# Altium integrated library Microchip PIC16 Part 2.IntLib: 1569 symbols (part 43 of 56)
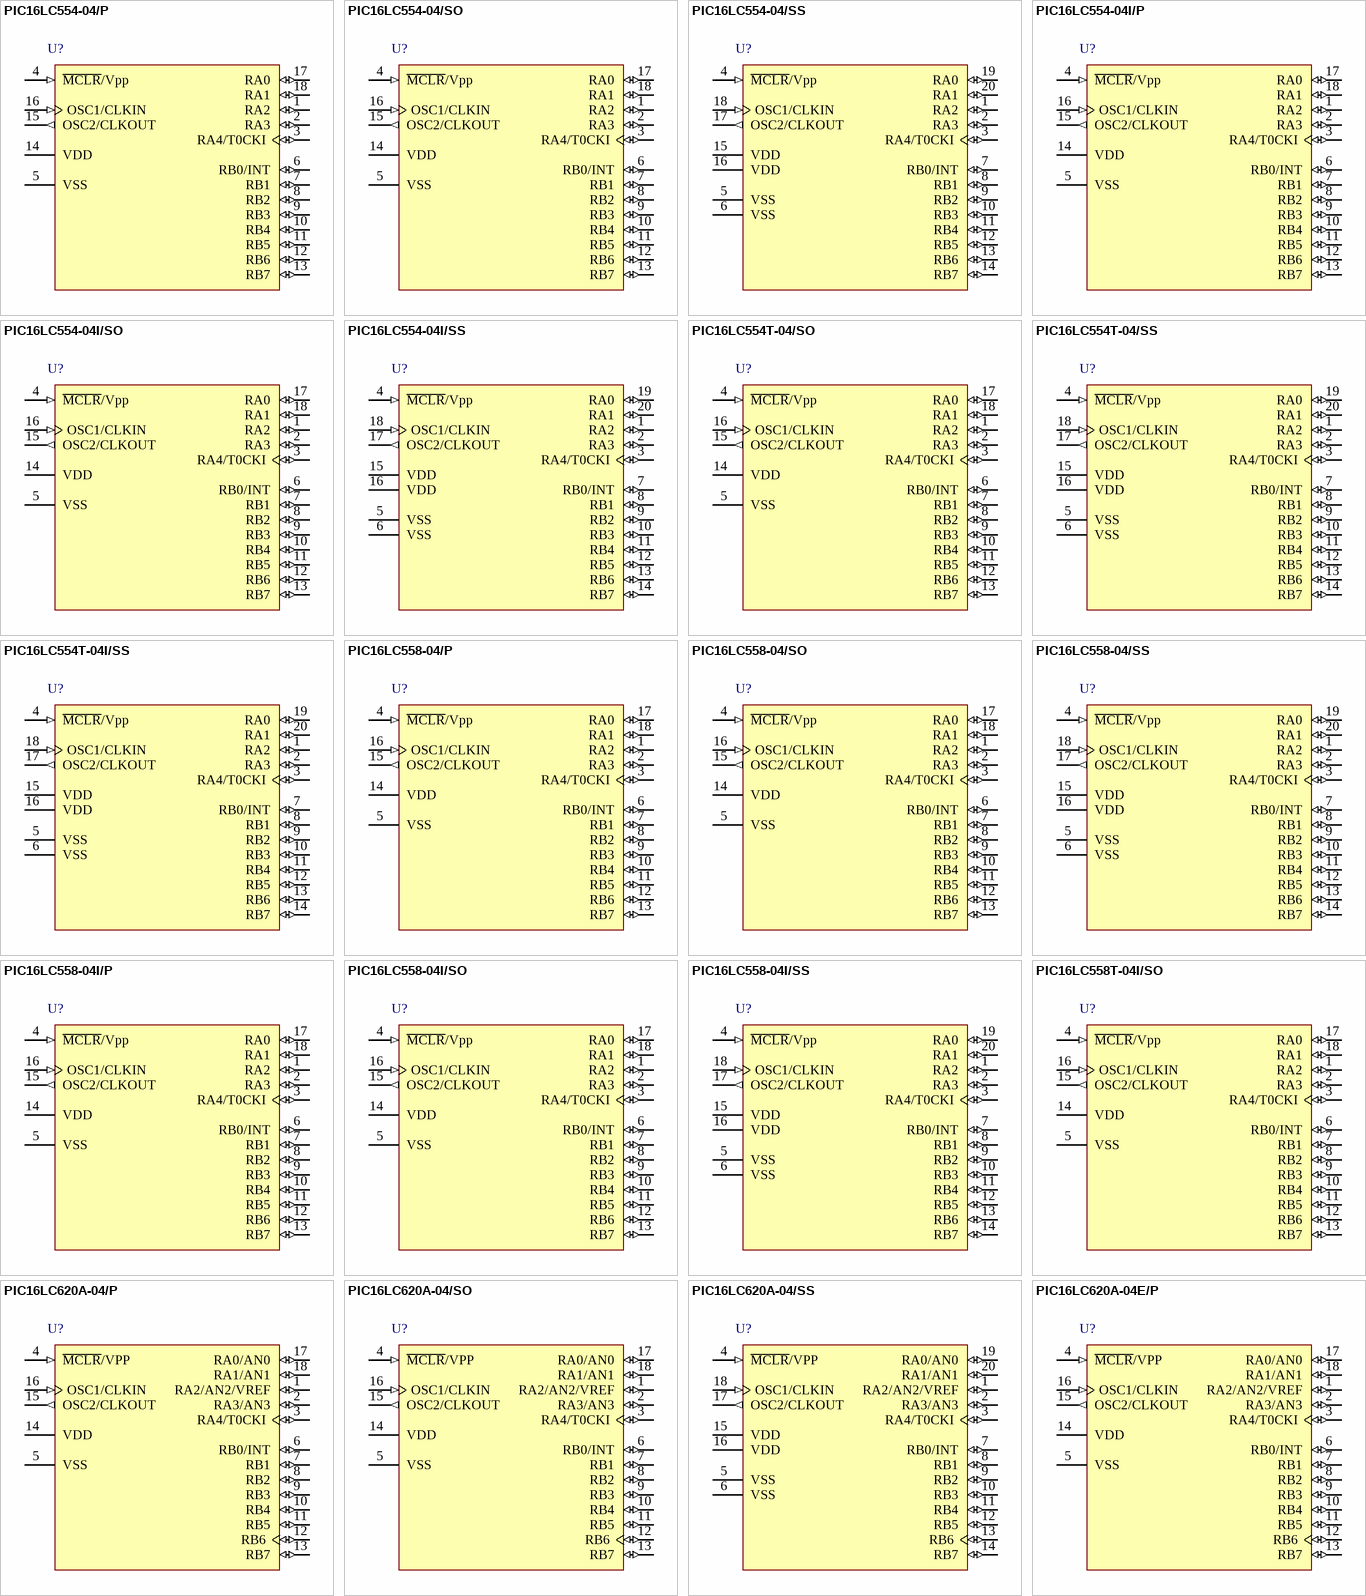
[diagram p167: symbols PIC16LC554-04/P to PIC16LC620A-04E/P]

## PIC16LC558T-04I/SO
designator U?
EPROM-Based 8-Bit CMOS Microcontroller, 128 Bytes RAM, 4 MHz, 13 I/O pins, 18-Pin SOIC, Extended VDD Range, Industrial Temperature, Tape and Reel; Manufacturer: Microchip; PartNumber: PIC16LC558T-04I/SO; DatasheetVersion: revD, Oct-2002; PackageVersion: revBB, Aug-2009; PackageReference: SOIC-SO18; PackageDescription: 18-Lead Plastic Small Outline (SO) - Wide 7.50mm Body [SOIC]; Supplier 1: Digi-Key; Supplier Part Number 1: PIC16LC558T-04ISO-ND; Supplier 2: Mouser; Supplier Part Number 2: 579-16LC558T-04I/SO; Code_JEDEC: MS-013; ComponentLink1Description: Manufacturer URL; ComponentLink1URL: http://www.microchip.com/; ComponentLink2Description: Datasheet; ComponentLink2URL: http://ww1.microchip.com/downloads/en/DeviceDoc/40143d.pdf; ComponentLink3Description: Package Specification; ComponentLink3URL: http://www.microchip.com/stellent/groups/techpub_sg/documents/packagingspec/en012702.pdf
footprint SOIC-SO18_N (SOIC, 18-Leads, Body 11.5x7.5mm, Pitch 1.27mm, IPC Medium Density)
footprint SOIC-SO18_L (SOIC, 18-Leads, Body 11.5x7.5mm, Pitch 1.27mm, IPC High Density)
footprint SOIC-SO18_M (SOIC, 18-Leads, Body 11.5x7.5mm, Pitch 1.27mm, IPC Low Density)
pins: 1 RA2 (io), 2 RA3 (io), 3 RA4/T0CKI (io), 4 ~{MCLR}/Vpp (in), 5 VSS (power), 6 RB0/INT (io), 7 RB1 (io), 8 RB2 (io), 9 RB3 (io), 10 RB4 (io), 11 RB5 (io), 12 RB6 (io), 13 RB7 (io), 14 VDD (power), 15 OSC2/CLKOUT (out), 16 OSC1/CLKIN (in), 17 RA0 (io), 18 RA1 (io)

## PIC16LC620A-04/P
designator U?
EPROM-Based 8-Bit CMOS Microcontroller, 96 Bytes RAM, 4 MHz, 13 I/O pins, 18-Pin PDIP, 2.5 to 5.5V Supply Range, Commercial Temperature; Manufacturer: Microchip; PartNumber: PIC16LC620A-04/P; DatasheetVersion: revJ, May-2003; PackageVersion: revBB, Aug-2009; PackageReference: PDIP300-P18; PackageDescription: 18-Lead Plastic Dual In-Line (P) - 300 mil Body [PDIP]; Supplier 1: Digi-Key; Supplier Part Number 1: PIC16LC620A-04/P-ND; Supplier 2: Mouser; Supplier Part Number 2: 579-PIC16LC620A-04/P; Code_JEDEC: MS-001; ComponentLink1Description: Manufacturer URL; ComponentLink1URL: http://www.microchip.com/; ComponentLink2Description: Datasheet; ComponentLink2URL: http://ww1.microchip.com/downloads/en/DeviceDoc/30235j.pdf; ComponentLink3Description: Package Specification; ComponentLink3URL: http://www.microchip.com/stellent/groups/techpub_sg/documents/packagingspec/en012702.pdf
footprint PDIP300-P18 (DIP, 18-Leads, Row Spacing 7.62mm, Pitch 2.54mm, Body 22.9x6.6mm)
pins: 1 RA2/AN2/VREF (io), 2 RA3/AN3 (io), 3 RA4/T0CKI (io), 4 ~{MCLR}/VPP (in), 5 VSS (power), 6 RB0/INT (io), 7 RB1 (io), 8 RB2 (io), 9 RB3 (io), 10 RB4 (io), 11 RB5 (io), 12 RB6 (io), 13 RB7 (io), 14 VDD (power), 15 OSC2/CLKOUT (out), 16 OSC1/CLKIN (in), 17 RA0/AN0 (io), 18 RA1/AN1 (io)

## PIC16LC620A-04/SO
designator U?
EPROM-Based 8-Bit CMOS Microcontroller, 96 Bytes RAM, 4 MHz, 13 I/O pins, 18-Pin SOIC, 2.5 to 5.5V Supply Range, Commercial Temperature; Manufacturer: Microchip; PartNumber: PIC16LC620A-04/SO; DatasheetVersion: revJ, May-2003; PackageVersion: revBB, Aug-2009; PackageReference: SOIC-SO18; PackageDescription: 18-Lead Plastic Small Outline (SO) - Wide 7.50mm Body [SOIC]; Supplier 1: Digi-Key; Supplier Part Number 1: PIC16LC620A-04/SO-ND; Supplier 2: Mouser; Supplier Part Number 2: 579-16LC620A-04/SO; Code_JEDEC: MS-013; ComponentLink1Description: Manufacturer URL; ComponentLink1URL: http://www.microchip.com/; ComponentLink2Description: Datasheet; ComponentLink2URL: http://ww1.microchip.com/downloads/en/DeviceDoc/30235j.pdf; ComponentLink3Description: Package Specification; ComponentLink3URL: http://www.microchip.com/stellent/groups/techpub_sg/documents/packagingspec/en012702.pdf
footprint SOIC-SO18_N (SOIC, 18-Leads, Body 11.5x7.5mm, Pitch 1.27mm, IPC Medium Density)
footprint SOIC-SO18_L (SOIC, 18-Leads, Body 11.5x7.5mm, Pitch 1.27mm, IPC High Density)
footprint SOIC-SO18_M (SOIC, 18-Leads, Body 11.5x7.5mm, Pitch 1.27mm, IPC Low Density)
pins: 1 RA2/AN2/VREF (io), 2 RA3/AN3 (io), 3 RA4/T0CKI (io), 4 ~{MCLR}/VPP (in), 5 VSS (power), 6 RB0/INT (io), 7 RB1 (io), 8 RB2 (io), 9 RB3 (io), 10 RB4 (io), 11 RB5 (io), 12 RB6 (io), 13 RB7 (io), 14 VDD (power), 15 OSC2/CLKOUT (out), 16 OSC1/CLKIN (in), 17 RA0/AN0 (io), 18 RA1/AN1 (io)

## PIC16LC620A-04/SS
designator U?
EPROM-Based 8-Bit CMOS Microcontroller, 96 Bytes RAM, 4 MHz, 13 I/O pins, 20-Pin SSOP, 2.5 to 5.5V Supply Range, Commercial Temperature; Manufacturer: Microchip; PartNumber: PIC16LC620A-04/SS; DatasheetVersion: revJ, May-2003; PackageVersion: revBB, Aug-2009; PackageReference: SSOP-SS20; PackageDescription: 20-Lead Plastic Shrink Small Outline (SS) - 5.3mm Body [SSOP]; Supplier 1: Digi-Key; Supplier Part Number 1: PIC16LC620A-04/SS-ND; Supplier 2: Mouser; Supplier Part Number 2: 579-16LC620A-04/SS; Code_JEDEC: MO-150; ComponentLink1Description: Manufacturer URL; ComponentLink1URL: http://www.microchip.com/; ComponentLink2Description: Datasheet; ComponentLink2URL: http://ww1.microchip.com/downloads/en/DeviceDoc/30235j.pdf; ComponentLink3Description: Package Specification; ComponentLink3URL: http://www.microchip.com/stellent/groups/techpub_sg/documents/packagingspec/en012702.pdf
footprint SSOP-SS20_N (SOP, 20-Leads, Body 7.2x5.2mm, Pitch 0.65mm, IPC Medium Density)
footprint SSOP-SS20_L (SOP, 20-Leads, Body 7.2x5.2mm, Pitch 0.65mm, IPC High Density)
footprint SSOP-SS20_M (SOP, 20-Leads, Body 7.2x5.2mm, Pitch 0.65mm, IPC Low Density)
pins: 1 RA2/AN2/VREF (io), 2 RA3/AN3 (io), 3 RA4/T0CKI (io), 4 ~{MCLR}/VPP (in), 5 VSS (power), 6 VSS (power), 7 RB0/INT (io), 8 RB1 (io), 9 RB2 (io), 10 RB3 (io), 11 RB4 (io), 12 RB5 (io), 13 RB6 (io), 14 RB7 (io), 15 VDD (power), 16 VDD (power), 17 OSC2/CLKOUT (out), 18 OSC1/CLKIN (in), 19 RA0/AN0 (io), 20 RA1/AN1 (io)

## PIC16LC620A-04E/P
designator U?
EPROM-Based 8-Bit CMOS Microcontroller, 96 Bytes RAM, 4 MHz, 13 I/O pins, 18-Pin PDIP, 2.7 to 5.5V Supply Range, Extended Temperature; Manufacturer: Microchip; PartNumber: PIC16LC620A-04E/P; DatasheetVersion: revJ, May-2003; PackageVersion: revBB, Aug-2009; PackageReference: PDIP300-P18; PackageDescription: 18-Lead Plastic Dual In-Line (P) - 300 mil Body [PDIP]; Supplier 1: Digi-Key; Supplier Part Number 1: PIC16LC620A-04E/P-ND; Supplier 2: Mouser; Supplier Part Number 2: 579-16LC620A-04E/P; Code_JEDEC: MS-001; ComponentLink1Description: Manufacturer URL; ComponentLink1URL: http://www.microchip.com/; ComponentLink2Description: Datasheet; ComponentLink2URL: http://ww1.microchip.com/downloads/en/DeviceDoc/30235j.pdf; ComponentLink3Description: Package Specification; ComponentLink3URL: http://www.microchip.com/stellent/groups/techpub_sg/documents/packagingspec/en012702.pdf
footprint PDIP300-P18 (DIP, 18-Leads, Row Spacing 7.62mm, Pitch 2.54mm, Body 22.9x6.6mm)
pins: 1 RA2/AN2/VREF (io), 2 RA3/AN3 (io), 3 RA4/T0CKI (io), 4 ~{MCLR}/VPP (in), 5 VSS (power), 6 RB0/INT (io), 7 RB1 (io), 8 RB2 (io), 9 RB3 (io), 10 RB4 (io), 11 RB5 (io), 12 RB6 (io), 13 RB7 (io), 14 VDD (power), 15 OSC2/CLKOUT (out), 16 OSC1/CLKIN (in), 17 RA0/AN0 (io), 18 RA1/AN1 (io)

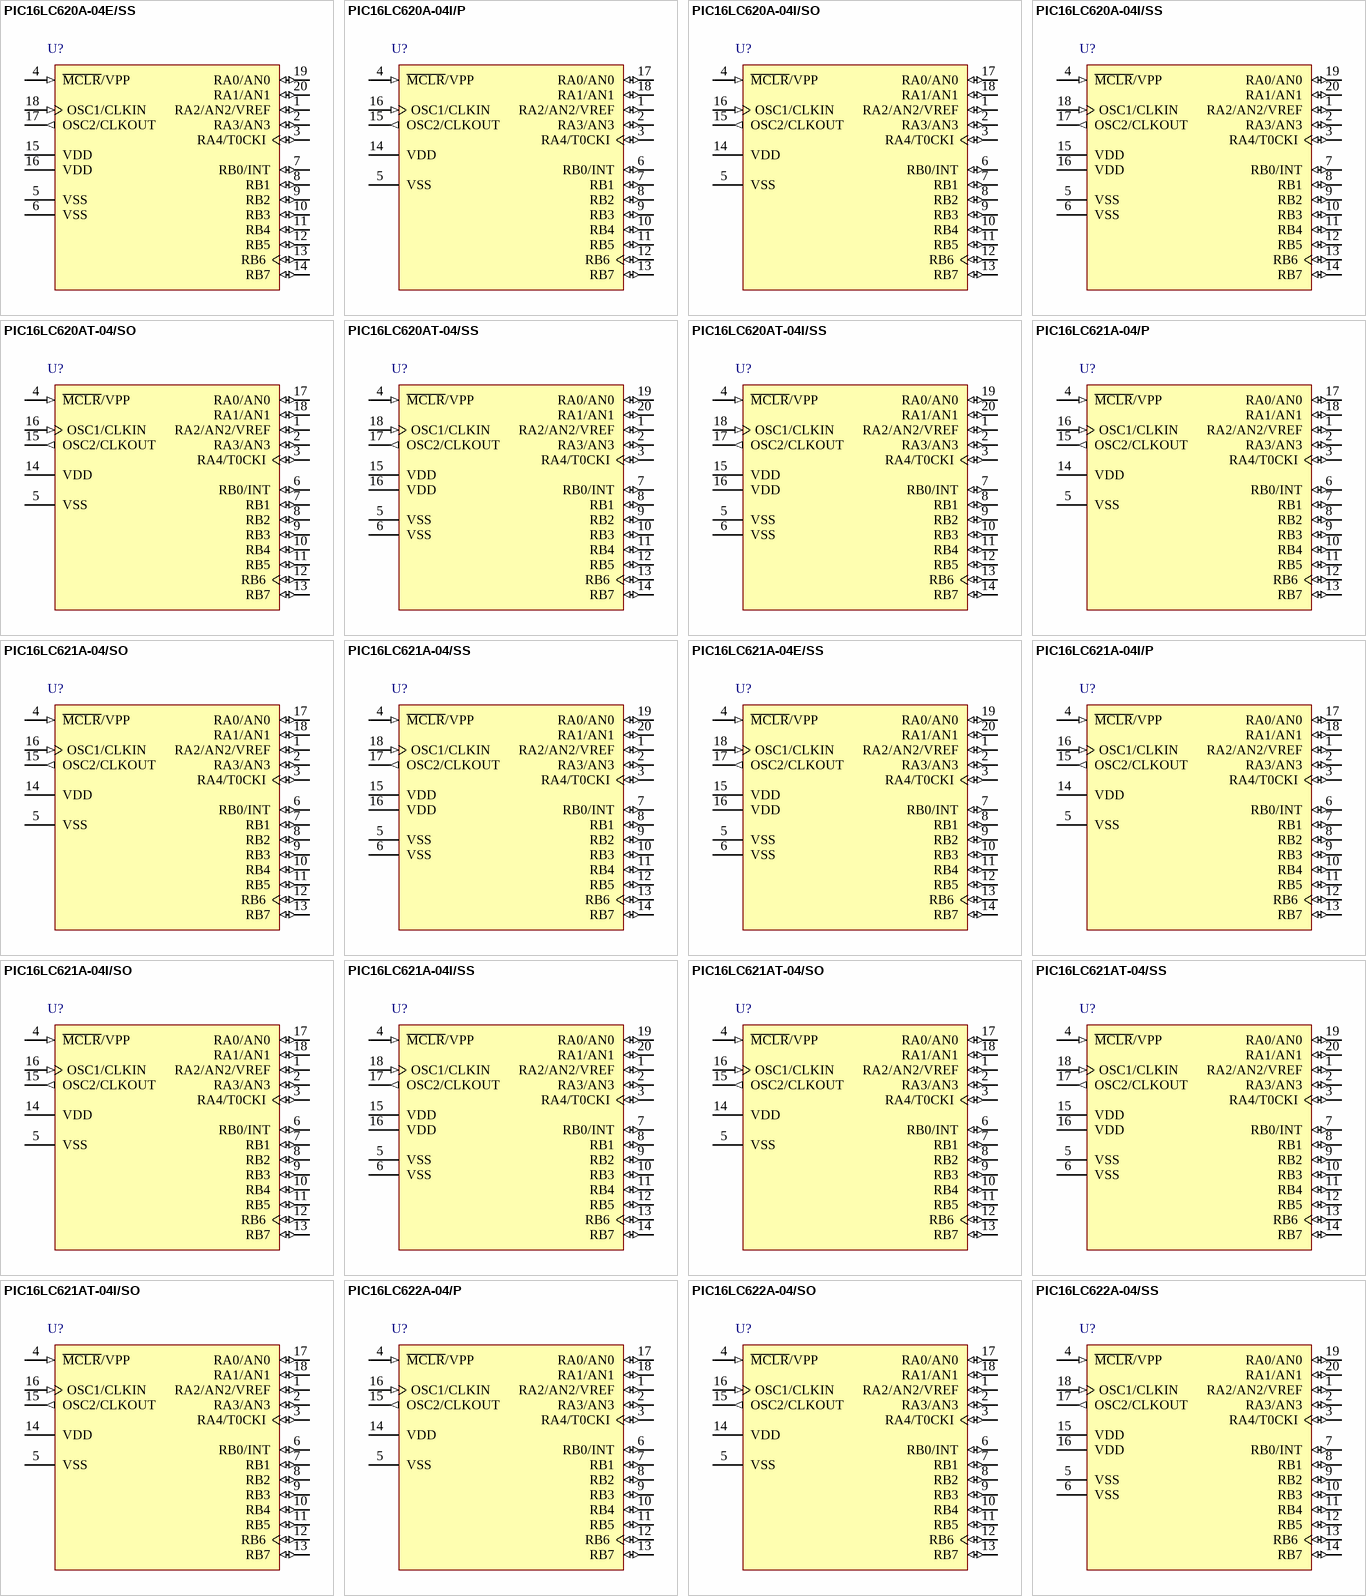
[diagram p92: symbols PIC16LC620A-04E/SS to PIC16LC622A-04/SS]

## PIC16LC620A-04E/SS
designator U?
EPROM-Based 8-Bit CMOS Microcontroller, 96 Bytes RAM, 4 MHz, 13 I/O pins, 20-Pin SSOP, 2.7 to 5.5V Supply Range, Extended Temperature; Manufacturer: Microchip; PartNumber: PIC16LC620A-04E/SS; DatasheetVersion: revJ, May-2003; PackageVersion: revBB, Aug-2009; PackageReference: SSOP-SS20; PackageDescription: 20-Lead Plastic Shrink Small Outline (SS) - 5.3mm Body [SSOP]; Supplier 1: Digi-Key; Supplier Part Number 1: PIC16LC620A-04ESS-ND; Supplier 2: Mouser; Supplier Part Number 2: 579-16LC620A-04E/SS; Code_JEDEC: MO-150; ComponentLink1Description: Manufacturer URL; ComponentLink1URL: http://www.microchip.com/; ComponentLink2Description: Datasheet; ComponentLink2URL: http://ww1.microchip.com/downloads/en/DeviceDoc/30235j.pdf; ComponentLink3Description: Package Specification; ComponentLink3URL: http://www.microchip.com/stellent/groups/techpub_sg/documents/packagingspec/en012702.pdf
footprint SSOP-SS20_N (SOP, 20-Leads, Body 7.2x5.2mm, Pitch 0.65mm, IPC Medium Density)
footprint SSOP-SS20_L (SOP, 20-Leads, Body 7.2x5.2mm, Pitch 0.65mm, IPC High Density)
footprint SSOP-SS20_M (SOP, 20-Leads, Body 7.2x5.2mm, Pitch 0.65mm, IPC Low Density)
pins: 1 RA2/AN2/VREF (io), 2 RA3/AN3 (io), 3 RA4/T0CKI (io), 4 ~{MCLR}/VPP (in), 5 VSS (power), 6 VSS (power), 7 RB0/INT (io), 8 RB1 (io), 9 RB2 (io), 10 RB3 (io), 11 RB4 (io), 12 RB5 (io), 13 RB6 (io), 14 RB7 (io), 15 VDD (power), 16 VDD (power), 17 OSC2/CLKOUT (out), 18 OSC1/CLKIN (in), 19 RA0/AN0 (io), 20 RA1/AN1 (io)

## PIC16LC620A-04I/P
designator U?
EPROM-Based 8-Bit CMOS Microcontroller, 96 Bytes RAM, 4 MHz, 13 I/O pins, 18-Pin PDIP, 2.7 to 5.5V Supply Range, Industrial Temperature; Manufacturer: Microchip; PartNumber: PIC16LC620A-04I/P; DatasheetVersion: revJ, May-2003; PackageVersion: revBB, Aug-2009; PackageReference: PDIP300-P18; PackageDescription: 18-Lead Plastic Dual In-Line (P) - 300 mil Body [PDIP]; Supplier 1: Digi-Key; Supplier Part Number 1: PIC16LC620A-04I/P-ND; Supplier 2: Mouser; Supplier Part Number 2: 579-16LC620A-04I/P; Code_JEDEC: MS-001; ComponentLink1Description: Manufacturer URL; ComponentLink1URL: http://www.microchip.com/; ComponentLink2Description: Datasheet; ComponentLink2URL: http://ww1.microchip.com/downloads/en/DeviceDoc/30235j.pdf; ComponentLink3Description: Package Specification; ComponentLink3URL: http://www.microchip.com/stellent/groups/techpub_sg/documents/packagingspec/en012702.pdf
footprint PDIP300-P18 (DIP, 18-Leads, Row Spacing 7.62mm, Pitch 2.54mm, Body 22.9x6.6mm)
pins: 1 RA2/AN2/VREF (io), 2 RA3/AN3 (io), 3 RA4/T0CKI (io), 4 ~{MCLR}/VPP (in), 5 VSS (power), 6 RB0/INT (io), 7 RB1 (io), 8 RB2 (io), 9 RB3 (io), 10 RB4 (io), 11 RB5 (io), 12 RB6 (io), 13 RB7 (io), 14 VDD (power), 15 OSC2/CLKOUT (out), 16 OSC1/CLKIN (in), 17 RA0/AN0 (io), 18 RA1/AN1 (io)

## PIC16LC620A-04I/SO
designator U?
EPROM-Based 8-Bit CMOS Microcontroller, 96 Bytes RAM, 4 MHz, 13 I/O pins, 18-Pin SOIC, 2.7 to 5.5V Supply Range, Industrial Temperature; Manufacturer: Microchip; PartNumber: PIC16LC620A-04I/SO; DatasheetVersion: revJ, May-2003; PackageVersion: revBB, Aug-2009; PackageReference: SOIC-SO18; PackageDescription: 18-Lead Plastic Small Outline (SO) - Wide 7.50mm Body [SOIC]; Supplier 1: Digi-Key; Supplier Part Number 1: PIC16LC620A-04ISO-ND; Supplier 2: Mouser; Supplier Part Number 2: 579-16LC620A-04I/SO; Code_JEDEC: MS-013; ComponentLink1Description: Manufacturer URL; ComponentLink1URL: http://www.microchip.com/; ComponentLink2Description: Datasheet; ComponentLink2URL: http://ww1.microchip.com/downloads/en/DeviceDoc/30235j.pdf; ComponentLink3Description: Package Specification; ComponentLink3URL: http://www.microchip.com/stellent/groups/techpub_sg/documents/packagingspec/en012702.pdf
footprint SOIC-SO18_N (SOIC, 18-Leads, Body 11.5x7.5mm, Pitch 1.27mm, IPC Medium Density)
footprint SOIC-SO18_L (SOIC, 18-Leads, Body 11.5x7.5mm, Pitch 1.27mm, IPC High Density)
footprint SOIC-SO18_M (SOIC, 18-Leads, Body 11.5x7.5mm, Pitch 1.27mm, IPC Low Density)
pins: 1 RA2/AN2/VREF (io), 2 RA3/AN3 (io), 3 RA4/T0CKI (io), 4 ~{MCLR}/VPP (in), 5 VSS (power), 6 RB0/INT (io), 7 RB1 (io), 8 RB2 (io), 9 RB3 (io), 10 RB4 (io), 11 RB5 (io), 12 RB6 (io), 13 RB7 (io), 14 VDD (power), 15 OSC2/CLKOUT (out), 16 OSC1/CLKIN (in), 17 RA0/AN0 (io), 18 RA1/AN1 (io)

## PIC16LC620A-04I/SS
designator U?
EPROM-Based 8-Bit CMOS Microcontroller, 96 Bytes RAM, 4 MHz, 13 I/O pins, 20-Pin SSOP, 2.7 to 5.5V Supply Range, Industrial Temperature; Manufacturer: Microchip; PartNumber: PIC16LC620A-04I/SS; DatasheetVersion: revJ, May-2003; PackageVersion: revBB, Aug-2009; PackageReference: SSOP-SS20; PackageDescription: 20-Lead Plastic Shrink Small Outline (SS) - 5.3mm Body [SSOP]; Supplier 1: Digi-Key; Supplier Part Number 1: PIC16LC620A-04ISS-ND; Supplier 2: Mouser; Supplier Part Number 2: 579-16LC620A-04I/SS; Code_JEDEC: MO-150; ComponentLink1Description: Manufacturer URL; ComponentLink1URL: http://www.microchip.com/; ComponentLink2Description: Datasheet; ComponentLink2URL: http://ww1.microchip.com/downloads/en/DeviceDoc/30235j.pdf; ComponentLink3Description: Package Specification; ComponentLink3URL: http://www.microchip.com/stellent/groups/techpub_sg/documents/packagingspec/en012702.pdf
footprint SSOP-SS20_N (SOP, 20-Leads, Body 7.2x5.2mm, Pitch 0.65mm, IPC Medium Density)
footprint SSOP-SS20_L (SOP, 20-Leads, Body 7.2x5.2mm, Pitch 0.65mm, IPC High Density)
footprint SSOP-SS20_M (SOP, 20-Leads, Body 7.2x5.2mm, Pitch 0.65mm, IPC Low Density)
pins: 1 RA2/AN2/VREF (io), 2 RA3/AN3 (io), 3 RA4/T0CKI (io), 4 ~{MCLR}/VPP (in), 5 VSS (power), 6 VSS (power), 7 RB0/INT (io), 8 RB1 (io), 9 RB2 (io), 10 RB3 (io), 11 RB4 (io), 12 RB5 (io), 13 RB6 (io), 14 RB7 (io), 15 VDD (power), 16 VDD (power), 17 OSC2/CLKOUT (out), 18 OSC1/CLKIN (in), 19 RA0/AN0 (io), 20 RA1/AN1 (io)

## PIC16LC620AT-04/SO
designator U?
EPROM-Based 8-Bit CMOS Microcontroller, 96 Bytes RAM, 4 MHz, 13 I/O pins, 18-Pin SOIC, 2.5 to 5.5V Supply Range, Commercial Temperature, Tape and Reel; Manufacturer: Microchip; PartNumber: PIC16LC620AT-04/SO; DatasheetVersion: revJ, May-2003; PackageVersion: revBB, Aug-2009; PackageReference: SOIC-SO18; PackageDescription: 18-Lead Plastic Small Outline (SO) - Wide 7.50mm Body [SOIC]; Supplier 1: Digi-Key; Supplier Part Number 1: PIC16LC620AT-04SO-ND; Supplier 2: Mouser; Supplier Part Number 2: 579-16LC620AT-04/SO; Code_JEDEC: MS-013; ComponentLink1Description: Manufacturer URL; ComponentLink1URL: http://www.microchip.com/; ComponentLink2Description: Datasheet; ComponentLink2URL: http://ww1.microchip.com/downloads/en/DeviceDoc/30235j.pdf; ComponentLink3Description: Package Specification; ComponentLink3URL: http://www.microchip.com/stellent/groups/techpub_sg/documents/packagingspec/en012702.pdf
footprint SOIC-SO18_N (SOIC, 18-Leads, Body 11.5x7.5mm, Pitch 1.27mm, IPC Medium Density)
footprint SOIC-SO18_L (SOIC, 18-Leads, Body 11.5x7.5mm, Pitch 1.27mm, IPC High Density)
footprint SOIC-SO18_M (SOIC, 18-Leads, Body 11.5x7.5mm, Pitch 1.27mm, IPC Low Density)
pins: 1 RA2/AN2/VREF (io), 2 RA3/AN3 (io), 3 RA4/T0CKI (io), 4 ~{MCLR}/VPP (in), 5 VSS (power), 6 RB0/INT (io), 7 RB1 (io), 8 RB2 (io), 9 RB3 (io), 10 RB4 (io), 11 RB5 (io), 12 RB6 (io), 13 RB7 (io), 14 VDD (power), 15 OSC2/CLKOUT (out), 16 OSC1/CLKIN (in), 17 RA0/AN0 (io), 18 RA1/AN1 (io)

## PIC16LC620AT-04/SS
designator U?
EPROM-Based 8-Bit CMOS Microcontroller, 96 Bytes RAM, 4 MHz, 13 I/O pins, 20-Pin SSOP, 2.5 to 5.5V Supply Range, Commercial Temperature, Tape and Reel; Manufacturer: Microchip; PartNumber: PIC16LC620AT-04/SS; DatasheetVersion: revJ, May-2003; PackageVersion: revBB, Aug-2009; PackageReference: SSOP-SS20; PackageDescription: 20-Lead Plastic Shrink Small Outline (SS) - 5.3mm Body [SSOP]; Supplier 1: Digi-Key; Supplier Part Number 1: PIC16LC620AT-04SS-ND; Supplier 2: Mouser; Supplier Part Number 2: 579-16LC620AT-04/SS; Code_JEDEC: MO-150; ComponentLink1Description: Manufacturer URL; ComponentLink1URL: http://www.microchip.com/; ComponentLink2Description: Datasheet; ComponentLink2URL: http://ww1.microchip.com/downloads/en/DeviceDoc/30235j.pdf; ComponentLink3Description: Package Specification; ComponentLink3URL: http://www.microchip.com/stellent/groups/techpub_sg/documents/packagingspec/en012702.pdf
footprint SSOP-SS20_N (SOP, 20-Leads, Body 7.2x5.2mm, Pitch 0.65mm, IPC Medium Density)
footprint SSOP-SS20_L (SOP, 20-Leads, Body 7.2x5.2mm, Pitch 0.65mm, IPC High Density)
footprint SSOP-SS20_M (SOP, 20-Leads, Body 7.2x5.2mm, Pitch 0.65mm, IPC Low Density)
pins: 1 RA2/AN2/VREF (io), 2 RA3/AN3 (io), 3 RA4/T0CKI (io), 4 ~{MCLR}/VPP (in), 5 VSS (power), 6 VSS (power), 7 RB0/INT (io), 8 RB1 (io), 9 RB2 (io), 10 RB3 (io), 11 RB4 (io), 12 RB5 (io), 13 RB6 (io), 14 RB7 (io), 15 VDD (power), 16 VDD (power), 17 OSC2/CLKOUT (out), 18 OSC1/CLKIN (in), 19 RA0/AN0 (io), 20 RA1/AN1 (io)

## PIC16LC620AT-04I/SS
designator U?
EPROM-Based 8-Bit CMOS Microcontroller, 96 Bytes RAM, 4 MHz, 13 I/O pins, 20-Pin SSOP, 2.7 to 5.5V Supply Range, Industrial Temperature, Tape and Reel; Manufacturer: Microchip; PartNumber: PIC16LC620AT-04I/SS; DatasheetVersion: revJ, May-2003; PackageVersion: revBB, Aug-2009; PackageReference: SSOP-SS20; PackageDescription: 20-Lead Plastic Shrink Small Outline (SS) - 5.3mm Body [SSOP]; Supplier 1: Digi-Key; Supplier Part Number 1: PIC16LC620AT04ISS-ND; Supplier 2: Mouser; Supplier Part Number 2: 579-16LC620AT-04I/SS; Code_JEDEC: MO-150; ComponentLink1Description: Manufacturer URL; ComponentLink1URL: http://www.microchip.com/; ComponentLink2Description: Datasheet; ComponentLink2URL: http://ww1.microchip.com/downloads/en/DeviceDoc/30235j.pdf; ComponentLink3Description: Package Specification; ComponentLink3URL: http://www.microchip.com/stellent/groups/techpub_sg/documents/packagingspec/en012702.pdf
footprint SSOP-SS20_N (SOP, 20-Leads, Body 7.2x5.2mm, Pitch 0.65mm, IPC Medium Density)
footprint SSOP-SS20_L (SOP, 20-Leads, Body 7.2x5.2mm, Pitch 0.65mm, IPC High Density)
footprint SSOP-SS20_M (SOP, 20-Leads, Body 7.2x5.2mm, Pitch 0.65mm, IPC Low Density)
pins: 1 RA2/AN2/VREF (io), 2 RA3/AN3 (io), 3 RA4/T0CKI (io), 4 ~{MCLR}/VPP (in), 5 VSS (power), 6 VSS (power), 7 RB0/INT (io), 8 RB1 (io), 9 RB2 (io), 10 RB3 (io), 11 RB4 (io), 12 RB5 (io), 13 RB6 (io), 14 RB7 (io), 15 VDD (power), 16 VDD (power), 17 OSC2/CLKOUT (out), 18 OSC1/CLKIN (in), 19 RA0/AN0 (io), 20 RA1/AN1 (io)

## PIC16LC621A-04/P
designator U?
EPROM-Based 8-Bit CMOS Microcontroller, 96 Bytes RAM, 4 MHz, 13 I/O pins, 18-Pin PDIP, 2.5 to 5.5V Supply Range, Commercial Temperature; Manufacturer: Microchip; PartNumber: PIC16LC621A-04/P; DatasheetVersion: revJ, May-2003; PackageVersion: revBB, Aug-2009; PackageReference: PDIP300-P18; PackageDescription: 18-Lead Plastic Dual In-Line (P) - 300 mil Body [PDIP]; Supplier 1: Digi-Key; Supplier Part Number 1: PIC16LC621A-04/P-ND; Supplier 2: Newark; Supplier Part Number 2: 23C5318; Supplier 3: Mouser; Supplier Part Number 3: 579-PIC16LC621A-04/P; Code_JEDEC: MS-001; ComponentLink1Description: Manufacturer URL; ComponentLink1URL: http://www.microchip.com/; ComponentLink2Description: Datasheet; ComponentLink2URL: http://ww1.microchip.com/downloads/en/DeviceDoc/30235j.pdf; ComponentLink3Description: Package Specification; ComponentLink3URL: http://www.microchip.com/stellent/groups/techpub_sg/documents/packagingspec/en012702.pdf
footprint PDIP300-P18 (DIP, 18-Leads, Row Spacing 7.62mm, Pitch 2.54mm, Body 22.9x6.6mm)
pins: 1 RA2/AN2/VREF (io), 2 RA3/AN3 (io), 3 RA4/T0CKI (io), 4 ~{MCLR}/VPP (in), 5 VSS (power), 6 RB0/INT (io), 7 RB1 (io), 8 RB2 (io), 9 RB3 (io), 10 RB4 (io), 11 RB5 (io), 12 RB6 (io), 13 RB7 (io), 14 VDD (power), 15 OSC2/CLKOUT (out), 16 OSC1/CLKIN (in), 17 RA0/AN0 (io), 18 RA1/AN1 (io)

## PIC16LC621A-04/SO
designator U?
EPROM-Based 8-Bit CMOS Microcontroller, 96 Bytes RAM, 4 MHz, 13 I/O pins, 18-Pin SOIC, 2.5 to 5.5V Supply Range, Commercial Temperature; Manufacturer: Microchip; PartNumber: PIC16LC621A-04/SO; DatasheetVersion: revJ, May-2003; PackageVersion: revBB, Aug-2009; PackageReference: SOIC-SO18; PackageDescription: 18-Lead Plastic Small Outline (SO) - Wide 7.50mm Body [SOIC]; Supplier 1: Digi-Key; Supplier Part Number 1: PIC16LC621A-04/SO-ND; Supplier 2: Mouser; Supplier Part Number 2: 579-16LC621A-04/SO; Code_JEDEC: MS-013; ComponentLink1Description: Manufacturer URL; ComponentLink1URL: http://www.microchip.com/; ComponentLink2Description: Datasheet; ComponentLink2URL: http://ww1.microchip.com/downloads/en/DeviceDoc/30235j.pdf; ComponentLink3Description: Package Specification; ComponentLink3URL: http://www.microchip.com/stellent/groups/techpub_sg/documents/packagingspec/en012702.pdf
footprint SOIC-SO18_N (SOIC, 18-Leads, Body 11.5x7.5mm, Pitch 1.27mm, IPC Medium Density)
footprint SOIC-SO18_L (SOIC, 18-Leads, Body 11.5x7.5mm, Pitch 1.27mm, IPC High Density)
footprint SOIC-SO18_M (SOIC, 18-Leads, Body 11.5x7.5mm, Pitch 1.27mm, IPC Low Density)
pins: 1 RA2/AN2/VREF (io), 2 RA3/AN3 (io), 3 RA4/T0CKI (io), 4 ~{MCLR}/VPP (in), 5 VSS (power), 6 RB0/INT (io), 7 RB1 (io), 8 RB2 (io), 9 RB3 (io), 10 RB4 (io), 11 RB5 (io), 12 RB6 (io), 13 RB7 (io), 14 VDD (power), 15 OSC2/CLKOUT (out), 16 OSC1/CLKIN (in), 17 RA0/AN0 (io), 18 RA1/AN1 (io)

## PIC16LC621A-04/SS
designator U?
EPROM-Based 8-Bit CMOS Microcontroller, 96 Bytes RAM, 4 MHz, 13 I/O pins, 20-Pin SSOP, 2.5 to 5.5V Supply Range, Commercial Temperature; Manufacturer: Microchip; PartNumber: PIC16LC621A-04/SS; DatasheetVersion: revJ, May-2003; PackageVersion: revBB, Aug-2009; PackageReference: SSOP-SS20; PackageDescription: 20-Lead Plastic Shrink Small Outline (SS) - 5.3mm Body [SSOP]; Supplier 1: Digi-Key; Supplier Part Number 1: PIC16LC621A-04/SS-ND; Supplier 2: Mouser; Supplier Part Number 2: 579-16LC621A-04/SS; Code_JEDEC: MO-150; ComponentLink1Description: Manufacturer URL; ComponentLink1URL: http://www.microchip.com/; ComponentLink2Description: Datasheet; ComponentLink2URL: http://ww1.microchip.com/downloads/en/DeviceDoc/30235j.pdf; ComponentLink3Description: Package Specification; ComponentLink3URL: http://www.microchip.com/stellent/groups/techpub_sg/documents/packagingspec/en012702.pdf
footprint SSOP-SS20_N (SOP, 20-Leads, Body 7.2x5.2mm, Pitch 0.65mm, IPC Medium Density)
footprint SSOP-SS20_L (SOP, 20-Leads, Body 7.2x5.2mm, Pitch 0.65mm, IPC High Density)
footprint SSOP-SS20_M (SOP, 20-Leads, Body 7.2x5.2mm, Pitch 0.65mm, IPC Low Density)
pins: 1 RA2/AN2/VREF (io), 2 RA3/AN3 (io), 3 RA4/T0CKI (io), 4 ~{MCLR}/VPP (in), 5 VSS (power), 6 VSS (power), 7 RB0/INT (io), 8 RB1 (io), 9 RB2 (io), 10 RB3 (io), 11 RB4 (io), 12 RB5 (io), 13 RB6 (io), 14 RB7 (io), 15 VDD (power), 16 VDD (power), 17 OSC2/CLKOUT (out), 18 OSC1/CLKIN (in), 19 RA0/AN0 (io), 20 RA1/AN1 (io)

## PIC16LC621A-04E/SS
designator U?
EPROM-Based 8-Bit CMOS Microcontroller, 96 Bytes RAM, 4 MHz, 13 I/O pins, 20-Pin SSOP, 2.7 to 5.5V Supply Range, Extended Temperature; Manufacturer: Microchip; PartNumber: PIC16LC621A-04E/SS; DatasheetVersion: revJ, May-2003; PackageVersion: revBB, Aug-2009; PackageReference: SSOP-SS20; PackageDescription: 20-Lead Plastic Shrink Small Outline (SS) - 5.3mm Body [SSOP]; Supplier 1: Digi-Key; Supplier Part Number 1: PIC16LC621A-04ESS-ND; Supplier 2: Mouser; Supplier Part Number 2: 579-16LC621A-04E/SS; Code_JEDEC: MO-150; ComponentLink1Description: Manufacturer URL; ComponentLink1URL: http://www.microchip.com/; ComponentLink2Description: Datasheet; ComponentLink2URL: http://ww1.microchip.com/downloads/en/DeviceDoc/30235j.pdf; ComponentLink3Description: Package Specification; ComponentLink3URL: http://www.microchip.com/stellent/groups/techpub_sg/documents/packagingspec/en012702.pdf
footprint SSOP-SS20_N (SOP, 20-Leads, Body 7.2x5.2mm, Pitch 0.65mm, IPC Medium Density)
footprint SSOP-SS20_L (SOP, 20-Leads, Body 7.2x5.2mm, Pitch 0.65mm, IPC High Density)
footprint SSOP-SS20_M (SOP, 20-Leads, Body 7.2x5.2mm, Pitch 0.65mm, IPC Low Density)
pins: 1 RA2/AN2/VREF (io), 2 RA3/AN3 (io), 3 RA4/T0CKI (io), 4 ~{MCLR}/VPP (in), 5 VSS (power), 6 VSS (power), 7 RB0/INT (io), 8 RB1 (io), 9 RB2 (io), 10 RB3 (io), 11 RB4 (io), 12 RB5 (io), 13 RB6 (io), 14 RB7 (io), 15 VDD (power), 16 VDD (power), 17 OSC2/CLKOUT (out), 18 OSC1/CLKIN (in), 19 RA0/AN0 (io), 20 RA1/AN1 (io)

## PIC16LC621A-04I/P
designator U?
EPROM-Based 8-Bit CMOS Microcontroller, 96 Bytes RAM, 4 MHz, 13 I/O pins, 18-Pin PDIP, 2.7 to 5.5V Supply Range, Industrial Temperature; Manufacturer: Microchip; PartNumber: PIC16LC621A-04I/P; DatasheetVersion: revJ, May-2003; PackageVersion: revBB, Aug-2009; PackageReference: PDIP300-P18; PackageDescription: 18-Lead Plastic Dual In-Line (P) - 300 mil Body [PDIP]; Supplier 1: Digi-Key; Supplier Part Number 1: PIC16LC621A-04I/P-ND; Supplier 2: Mouser; Supplier Part Number 2: 579-16LC621A-04I/P; Code_JEDEC: MS-001; ComponentLink1Description: Manufacturer URL; ComponentLink1URL: http://www.microchip.com/; ComponentLink2Description: Datasheet; ComponentLink2URL: http://ww1.microchip.com/downloads/en/DeviceDoc/30235j.pdf; ComponentLink3Description: Package Specification; ComponentLink3URL: http://www.microchip.com/stellent/groups/techpub_sg/documents/packagingspec/en012702.pdf
footprint PDIP300-P18 (DIP, 18-Leads, Row Spacing 7.62mm, Pitch 2.54mm, Body 22.9x6.6mm)
pins: 1 RA2/AN2/VREF (io), 2 RA3/AN3 (io), 3 RA4/T0CKI (io), 4 ~{MCLR}/VPP (in), 5 VSS (power), 6 RB0/INT (io), 7 RB1 (io), 8 RB2 (io), 9 RB3 (io), 10 RB4 (io), 11 RB5 (io), 12 RB6 (io), 13 RB7 (io), 14 VDD (power), 15 OSC2/CLKOUT (out), 16 OSC1/CLKIN (in), 17 RA0/AN0 (io), 18 RA1/AN1 (io)

## PIC16LC621A-04I/SO
designator U?
EPROM-Based 8-Bit CMOS Microcontroller, 96 Bytes RAM, 4 MHz, 13 I/O pins, 18-Pin SOIC, 2.7 to 5.5V Supply Range, Industrial Temperature; Manufacturer: Microchip; PartNumber: PIC16LC621A-04I/SO; DatasheetVersion: revJ, May-2003; PackageVersion: revBB, Aug-2009; PackageReference: SOIC-SO18; PackageDescription: 18-Lead Plastic Small Outline (SO) - Wide 7.50mm Body [SOIC]; Supplier 1: Digi-Key; Supplier Part Number 1: PIC16LC621A-04ISO-ND; Supplier 2: Mouser; Supplier Part Number 2: 579-16LC621A-04I/SO; Code_JEDEC: MS-013; ComponentLink1Description: Manufacturer URL; ComponentLink1URL: http://www.microchip.com/; ComponentLink2Description: Datasheet; ComponentLink2URL: http://ww1.microchip.com/downloads/en/DeviceDoc/30235j.pdf; ComponentLink3Description: Package Specification; ComponentLink3URL: http://www.microchip.com/stellent/groups/techpub_sg/documents/packagingspec/en012702.pdf
footprint SOIC-SO18_N (SOIC, 18-Leads, Body 11.5x7.5mm, Pitch 1.27mm, IPC Medium Density)
footprint SOIC-SO18_L (SOIC, 18-Leads, Body 11.5x7.5mm, Pitch 1.27mm, IPC High Density)
footprint SOIC-SO18_M (SOIC, 18-Leads, Body 11.5x7.5mm, Pitch 1.27mm, IPC Low Density)
pins: 1 RA2/AN2/VREF (io), 2 RA3/AN3 (io), 3 RA4/T0CKI (io), 4 ~{MCLR}/VPP (in), 5 VSS (power), 6 RB0/INT (io), 7 RB1 (io), 8 RB2 (io), 9 RB3 (io), 10 RB4 (io), 11 RB5 (io), 12 RB6 (io), 13 RB7 (io), 14 VDD (power), 15 OSC2/CLKOUT (out), 16 OSC1/CLKIN (in), 17 RA0/AN0 (io), 18 RA1/AN1 (io)

## PIC16LC621A-04I/SS
designator U?
EPROM-Based 8-Bit CMOS Microcontroller, 96 Bytes RAM, 4 MHz, 13 I/O pins, 20-Pin SSOP, 2.7 to 5.5V Supply Range, Industrial Temperature; Manufacturer: Microchip; PartNumber: PIC16LC621A-04I/SS; DatasheetVersion: revJ, May-2003; PackageVersion: revBB, Aug-2009; PackageReference: SSOP-SS20; PackageDescription: 20-Lead Plastic Shrink Small Outline (SS) - 5.3mm Body [SSOP]; Supplier 1: Digi-Key; Supplier Part Number 1: PIC16LC621A-04ISS-ND; Supplier 2: Mouser; Supplier Part Number 2: 579-16LC621A-04I/SS; Code_JEDEC: MO-150; ComponentLink1Description: Manufacturer URL; ComponentLink1URL: http://www.microchip.com/; ComponentLink2Description: Datasheet; ComponentLink2URL: http://ww1.microchip.com/downloads/en/DeviceDoc/30235j.pdf; ComponentLink3Description: Package Specification; ComponentLink3URL: http://www.microchip.com/stellent/groups/techpub_sg/documents/packagingspec/en012702.pdf
footprint SSOP-SS20_N (SOP, 20-Leads, Body 7.2x5.2mm, Pitch 0.65mm, IPC Medium Density)
footprint SSOP-SS20_L (SOP, 20-Leads, Body 7.2x5.2mm, Pitch 0.65mm, IPC High Density)
footprint SSOP-SS20_M (SOP, 20-Leads, Body 7.2x5.2mm, Pitch 0.65mm, IPC Low Density)
pins: 1 RA2/AN2/VREF (io), 2 RA3/AN3 (io), 3 RA4/T0CKI (io), 4 ~{MCLR}/VPP (in), 5 VSS (power), 6 VSS (power), 7 RB0/INT (io), 8 RB1 (io), 9 RB2 (io), 10 RB3 (io), 11 RB4 (io), 12 RB5 (io), 13 RB6 (io), 14 RB7 (io), 15 VDD (power), 16 VDD (power), 17 OSC2/CLKOUT (out), 18 OSC1/CLKIN (in), 19 RA0/AN0 (io), 20 RA1/AN1 (io)

## PIC16LC621AT-04/SO
designator U?
EPROM-Based 8-Bit CMOS Microcontroller, 96 Bytes RAM, 4 MHz, 13 I/O pins, 18-Pin SOIC, 2.5 to 5.5V Supply Range, Commercial Temperature, Tape and Reel; Manufacturer: Microchip; PartNumber: PIC16LC621AT-04/SO; DatasheetVersion: revJ, May-2003; PackageVersion: revBB, Aug-2009; PackageReference: SOIC-SO18; PackageDescription: 18-Lead Plastic Small Outline (SO) - Wide 7.50mm Body [SOIC]; Supplier 1: Digi-Key; Supplier Part Number 1: PIC16LC621AT-04SO-ND; Supplier 2: Mouser; Supplier Part Number 2: 579-16LC621AT-04/SO; Code_JEDEC: MS-013; ComponentLink1Description: Manufacturer URL; ComponentLink1URL: http://www.microchip.com/; ComponentLink2Description: Datasheet; ComponentLink2URL: http://ww1.microchip.com/downloads/en/DeviceDoc/30235j.pdf; ComponentLink3Description: Package Specification; ComponentLink3URL: http://www.microchip.com/stellent/groups/techpub_sg/documents/packagingspec/en012702.pdf
footprint SOIC-SO18_N (SOIC, 18-Leads, Body 11.5x7.5mm, Pitch 1.27mm, IPC Medium Density)
footprint SOIC-SO18_L (SOIC, 18-Leads, Body 11.5x7.5mm, Pitch 1.27mm, IPC High Density)
footprint SOIC-SO18_M (SOIC, 18-Leads, Body 11.5x7.5mm, Pitch 1.27mm, IPC Low Density)
pins: 1 RA2/AN2/VREF (io), 2 RA3/AN3 (io), 3 RA4/T0CKI (io), 4 ~{MCLR}/VPP (in), 5 VSS (power), 6 RB0/INT (io), 7 RB1 (io), 8 RB2 (io), 9 RB3 (io), 10 RB4 (io), 11 RB5 (io), 12 RB6 (io), 13 RB7 (io), 14 VDD (power), 15 OSC2/CLKOUT (out), 16 OSC1/CLKIN (in), 17 RA0/AN0 (io), 18 RA1/AN1 (io)

## PIC16LC621AT-04/SS
designator U?
EPROM-Based 8-Bit CMOS Microcontroller, 96 Bytes RAM, 4 MHz, 13 I/O pins, 20-Pin SSOP, 2.5 to 5.5V Supply Range, Commercial Temperature, Tape and Reel; Manufacturer: Microchip; PartNumber: PIC16LC621AT-04/SS; DatasheetVersion: revJ, May-2003; PackageVersion: revBB, Aug-2009; PackageReference: SSOP-SS20; PackageDescription: 20-Lead Plastic Shrink Small Outline (SS) - 5.3mm Body [SSOP]; Supplier 1: Digi-Key; Supplier Part Number 1: PIC16LC621AT-04SS-ND; Supplier 2: Mouser; Supplier Part Number 2: 579-16LC621AT-04/SS; Code_JEDEC: MO-150; ComponentLink1Description: Manufacturer URL; ComponentLink1URL: http://www.microchip.com/; ComponentLink2Description: Datasheet; ComponentLink2URL: http://ww1.microchip.com/downloads/en/DeviceDoc/30235j.pdf; ComponentLink3Description: Package Specification; ComponentLink3URL: http://www.microchip.com/stellent/groups/techpub_sg/documents/packagingspec/en012702.pdf
footprint SSOP-SS20_N (SOP, 20-Leads, Body 7.2x5.2mm, Pitch 0.65mm, IPC Medium Density)
footprint SSOP-SS20_L (SOP, 20-Leads, Body 7.2x5.2mm, Pitch 0.65mm, IPC High Density)
footprint SSOP-SS20_M (SOP, 20-Leads, Body 7.2x5.2mm, Pitch 0.65mm, IPC Low Density)
pins: 1 RA2/AN2/VREF (io), 2 RA3/AN3 (io), 3 RA4/T0CKI (io), 4 ~{MCLR}/VPP (in), 5 VSS (power), 6 VSS (power), 7 RB0/INT (io), 8 RB1 (io), 9 RB2 (io), 10 RB3 (io), 11 RB4 (io), 12 RB5 (io), 13 RB6 (io), 14 RB7 (io), 15 VDD (power), 16 VDD (power), 17 OSC2/CLKOUT (out), 18 OSC1/CLKIN (in), 19 RA0/AN0 (io), 20 RA1/AN1 (io)

## PIC16LC621AT-04I/SO
designator U?
EPROM-Based 8-Bit CMOS Microcontroller, 96 Bytes RAM, 4 MHz, 13 I/O pins, 18-Pin SOIC, 2.7 to 5.5V Supply Range, Industrial Temperature, Tape and Reel; Manufacturer: Microchip; PartNumber: PIC16LC621AT-04I/SO; DatasheetVersion: revJ, May-2003; PackageVersion: revBB, Aug-2009; PackageReference: SOIC-SO18; PackageDescription: 18-Lead Plastic Small Outline (SO) - Wide 7.50mm Body [SOIC]; Supplier 1: Digi-Key; Supplier Part Number 1: PIC16LC621AT04ISO-ND; Supplier 2: Mouser; Supplier Part Number 2: 579-16LC621AT-04I/SO; Code_JEDEC: MS-013; ComponentLink1Description: Manufacturer URL; ComponentLink1URL: http://www.microchip.com/; ComponentLink2Description: Datasheet; ComponentLink2URL: http://ww1.microchip.com/downloads/en/DeviceDoc/30235j.pdf; ComponentLink3Description: Package Specification; ComponentLink3URL: http://www.microchip.com/stellent/groups/techpub_sg/documents/packagingspec/en012702.pdf
footprint SOIC-SO18_N (SOIC, 18-Leads, Body 11.5x7.5mm, Pitch 1.27mm, IPC Medium Density)
footprint SOIC-SO18_L (SOIC, 18-Leads, Body 11.5x7.5mm, Pitch 1.27mm, IPC High Density)
footprint SOIC-SO18_M (SOIC, 18-Leads, Body 11.5x7.5mm, Pitch 1.27mm, IPC Low Density)
pins: 1 RA2/AN2/VREF (io), 2 RA3/AN3 (io), 3 RA4/T0CKI (io), 4 ~{MCLR}/VPP (in), 5 VSS (power), 6 RB0/INT (io), 7 RB1 (io), 8 RB2 (io), 9 RB3 (io), 10 RB4 (io), 11 RB5 (io), 12 RB6 (io), 13 RB7 (io), 14 VDD (power), 15 OSC2/CLKOUT (out), 16 OSC1/CLKIN (in), 17 RA0/AN0 (io), 18 RA1/AN1 (io)

## PIC16LC622A-04/P
designator U?
EPROM-Based 8-Bit CMOS Microcontroller, 128 Bytes RAM, 13 I/O pins, 18-Pin PDIP, 2.5 to 5.5V Supply Range, Commercial Temperature; Manufacturer: Microchip; PartNumber: PIC16LC622A-04/P; DatasheetVersion: revJ, May-2003; PackageVersion: revBB, Aug-2009; PackageReference: PDIP300-P18; PackageDescription: 18-Lead Plastic Dual In-Line (P) - 300 mil Body [PDIP]; Supplier 1: Digi-Key; Supplier Part Number 1: PIC16LC622A-04/P-ND; Supplier 2: Mouser; Supplier Part Number 2: 579-PIC16LC622A-04/P; Code_JEDEC: MS-001; ComponentLink1Description: Manufacturer URL; ComponentLink1URL: http://www.microchip.com/; ComponentLink2Description: Datasheet; ComponentLink2URL: http://ww1.microchip.com/downloads/en/DeviceDoc/30235j.pdf; ComponentLink3Description: Package Specification; ComponentLink3URL: http://www.microchip.com/stellent/groups/techpub_sg/documents/packagingspec/en012702.pdf
footprint PDIP300-P18 (DIP, 18-Leads, Row Spacing 7.62mm, Pitch 2.54mm, Body 22.9x6.6mm)
pins: 1 RA2/AN2/VREF (io), 2 RA3/AN3 (io), 3 RA4/T0CKI (io), 4 ~{MCLR}/VPP (in), 5 VSS (power), 6 RB0/INT (io), 7 RB1 (io), 8 RB2 (io), 9 RB3 (io), 10 RB4 (io), 11 RB5 (io), 12 RB6 (io), 13 RB7 (io), 14 VDD (power), 15 OSC2/CLKOUT (out), 16 OSC1/CLKIN (in), 17 RA0/AN0 (io), 18 RA1/AN1 (io)

## PIC16LC622A-04/SO
designator U?
EPROM-Based 8-Bit CMOS Microcontroller, 128 Bytes RAM, 13 I/O pins, 18-Pin SOIC, 2.5 to 5.5V Supply Range, Commercial Temperature; Manufacturer: Microchip; PartNumber: PIC16LC622A-04/SO; DatasheetVersion: revJ, May-2003; PackageVersion: revBB, Aug-2009; PackageReference: SOIC-SO18; PackageDescription: 18-Lead Plastic Small Outline (SO) - Wide 7.50mm Body [SOIC]; Supplier 1: Digi-Key; Supplier Part Number 1: PIC16LC622A-04/SO-ND; Supplier 2: Mouser; Supplier Part Number 2: 579-16LC622A-04/SO; Code_JEDEC: MS-013; ComponentLink1Description: Manufacturer URL; ComponentLink1URL: http://www.microchip.com/; ComponentLink2Description: Datasheet; ComponentLink2URL: http://ww1.microchip.com/downloads/en/DeviceDoc/30235j.pdf; ComponentLink3Description: Package Specification; ComponentLink3URL: http://www.microchip.com/stellent/groups/techpub_sg/documents/packagingspec/en012702.pdf
footprint SOIC-SO18_N (SOIC, 18-Leads, Body 11.5x7.5mm, Pitch 1.27mm, IPC Medium Density)
footprint SOIC-SO18_L (SOIC, 18-Leads, Body 11.5x7.5mm, Pitch 1.27mm, IPC High Density)
footprint SOIC-SO18_M (SOIC, 18-Leads, Body 11.5x7.5mm, Pitch 1.27mm, IPC Low Density)
pins: 1 RA2/AN2/VREF (io), 2 RA3/AN3 (io), 3 RA4/T0CKI (io), 4 ~{MCLR}/VPP (in), 5 VSS (power), 6 RB0/INT (io), 7 RB1 (io), 8 RB2 (io), 9 RB3 (io), 10 RB4 (io), 11 RB5 (io), 12 RB6 (io), 13 RB7 (io), 14 VDD (power), 15 OSC2/CLKOUT (out), 16 OSC1/CLKIN (in), 17 RA0/AN0 (io), 18 RA1/AN1 (io)

## PIC16LC622A-04/SS
designator U?
EPROM-Based 8-Bit CMOS Microcontroller, 128 Bytes RAM, 13 I/O pins, 20-Pin SSOP, 2.5 to 5.5V Supply Range, Commercial Temperature; Manufacturer: Microchip; PartNumber: PIC16LC622A-04/SS; DatasheetVersion: revJ, May-2003; PackageVersion: revBB, Aug-2009; PackageReference: SSOP-SS20; PackageDescription: 20-Lead Plastic Shrink Small Outline (SS) - 5.3mm Body [SSOP]; Supplier 1: Digi-Key; Supplier Part Number 1: PIC16LC622A-04/SS-ND; Supplier 2: Mouser; Supplier Part Number 2: 579-16LC622A-04/SS; Code_JEDEC: MO-150; ComponentLink1Description: Manufacturer URL; ComponentLink1URL: http://www.microchip.com/; ComponentLink2Description: Datasheet; ComponentLink2URL: http://ww1.microchip.com/downloads/en/DeviceDoc/30235j.pdf; ComponentLink3Description: Package Specification; ComponentLink3URL: http://www.microchip.com/stellent/groups/techpub_sg/documents/packagingspec/en012702.pdf
footprint SSOP-SS20_N (SOP, 20-Leads, Body 7.2x5.2mm, Pitch 0.65mm, IPC Medium Density)
footprint SSOP-SS20_L (SOP, 20-Leads, Body 7.2x5.2mm, Pitch 0.65mm, IPC High Density)
footprint SSOP-SS20_M (SOP, 20-Leads, Body 7.2x5.2mm, Pitch 0.65mm, IPC Low Density)
pins: 1 RA2/AN2/VREF (io), 2 RA3/AN3 (io), 3 RA4/T0CKI (io), 4 ~{MCLR}/VPP (in), 5 VSS (power), 6 VSS (power), 7 RB0/INT (io), 8 RB1 (io), 9 RB2 (io), 10 RB3 (io), 11 RB4 (io), 12 RB5 (io), 13 RB6 (io), 14 RB7 (io), 15 VDD (power), 16 VDD (power), 17 OSC2/CLKOUT (out), 18 OSC1/CLKIN (in), 19 RA0/AN0 (io), 20 RA1/AN1 (io)

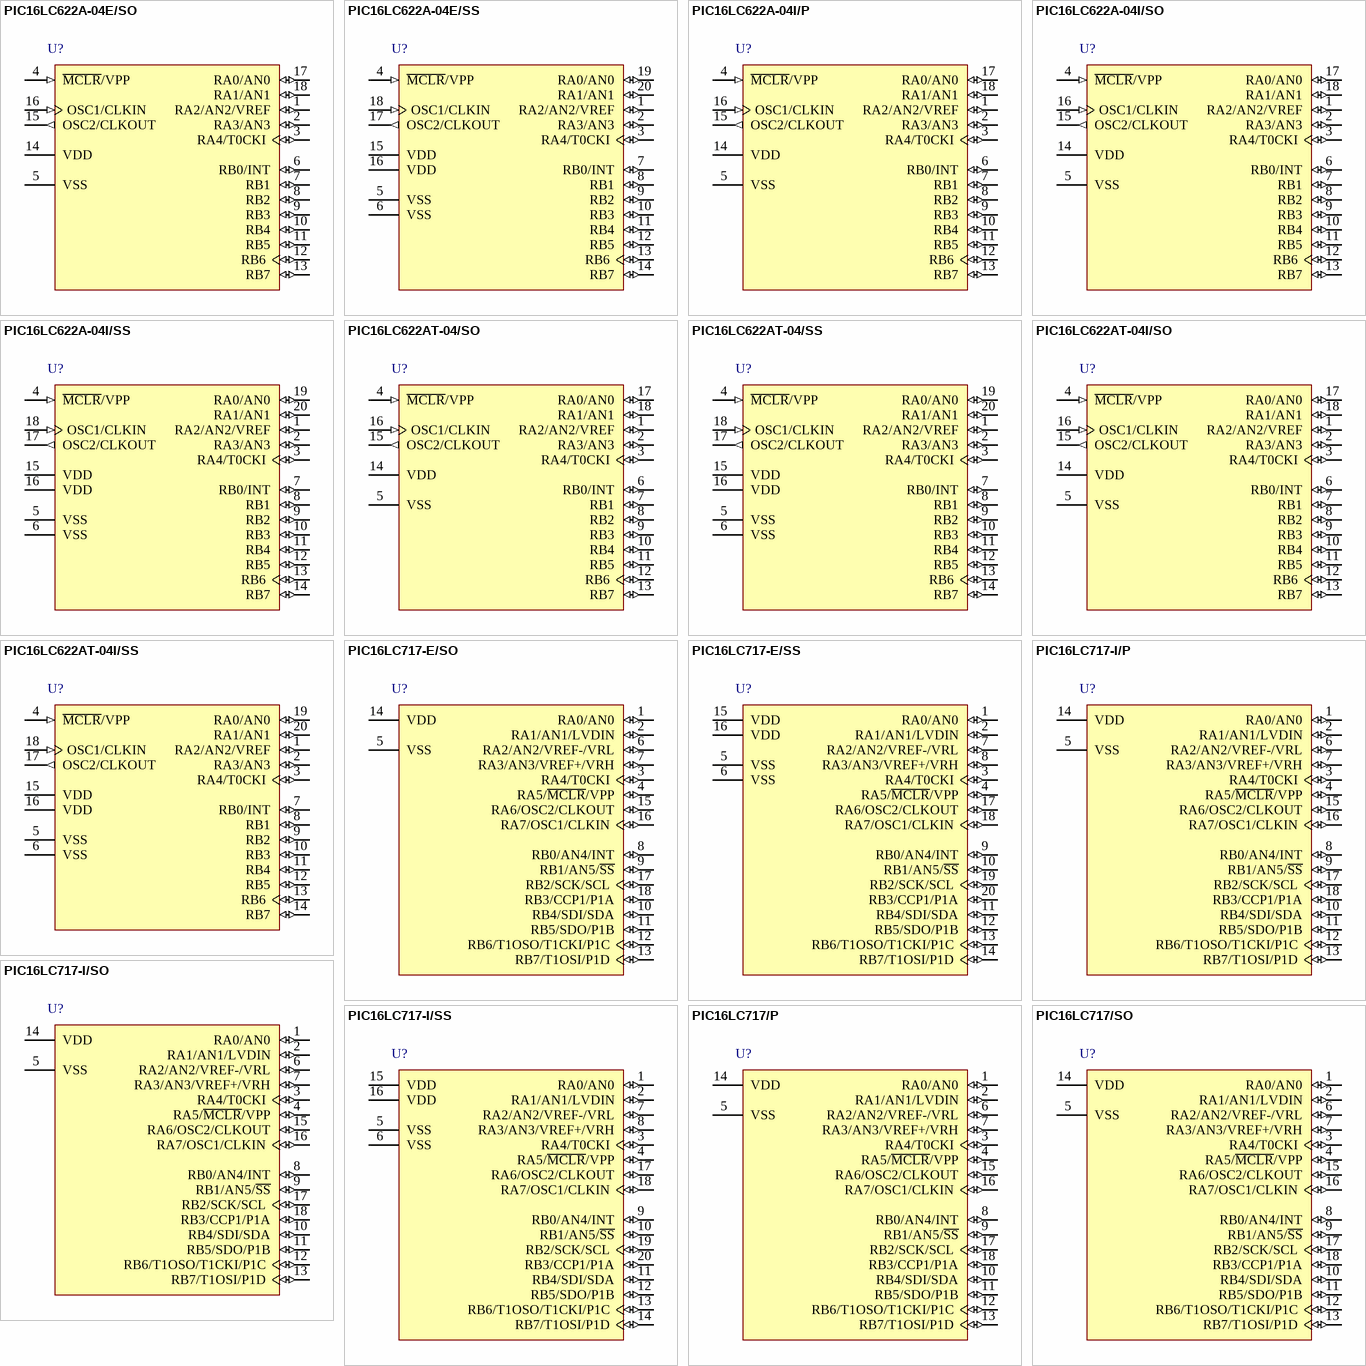
[diagram p93: symbols PIC16LC622A-04E/SO to PIC16LC717/SO]

## PIC16LC622A-04E/SO
designator U?
EPROM-Based 8-Bit CMOS Microcontroller, 128 Bytes RAM, 13 I/O pins, 18-Pin SOIC, 2.7 to 5.5V Supply Range, Extended Temperature; Manufacturer: Microchip; PartNumber: PIC16LC622A-04E/SO; DatasheetVersion: revJ, May-2003; PackageVersion: revBB, Aug-2009; PackageReference: SOIC-SO18; PackageDescription: 18-Lead Plastic Small Outline (SO) - Wide 7.50mm Body [SOIC]; Supplier 1: Digi-Key; Supplier Part Number 1: PIC16LC622A-04ESO-ND; Supplier 2: Mouser; Supplier Part Number 2: 579-16LC622A-04E/SO; Code_JEDEC: MS-013; ComponentLink1Description: Manufacturer URL; ComponentLink1URL: http://www.microchip.com/; ComponentLink2Description: Datasheet; ComponentLink2URL: http://ww1.microchip.com/downloads/en/DeviceDoc/30235j.pdf; ComponentLink3Description: Package Specification; ComponentLink3URL: http://www.microchip.com/stellent/groups/techpub_sg/documents/packagingspec/en012702.pdf
footprint SOIC-SO18_N (SOIC, 18-Leads, Body 11.5x7.5mm, Pitch 1.27mm, IPC Medium Density)
footprint SOIC-SO18_L (SOIC, 18-Leads, Body 11.5x7.5mm, Pitch 1.27mm, IPC High Density)
footprint SOIC-SO18_M (SOIC, 18-Leads, Body 11.5x7.5mm, Pitch 1.27mm, IPC Low Density)
pins: 1 RA2/AN2/VREF (io), 2 RA3/AN3 (io), 3 RA4/T0CKI (io), 4 ~{MCLR}/VPP (in), 5 VSS (power), 6 RB0/INT (io), 7 RB1 (io), 8 RB2 (io), 9 RB3 (io), 10 RB4 (io), 11 RB5 (io), 12 RB6 (io), 13 RB7 (io), 14 VDD (power), 15 OSC2/CLKOUT (out), 16 OSC1/CLKIN (in), 17 RA0/AN0 (io), 18 RA1/AN1 (io)

## PIC16LC622A-04E/SS
designator U?
EPROM-Based 8-Bit CMOS Microcontroller, 128 Bytes RAM, 13 I/O pins, 20-Pin SSOP, 2.7 to 5.5V Supply Range, Extended Temperature; Manufacturer: Microchip; PartNumber: PIC16LC622A-04E/SS; DatasheetVersion: revJ, May-2003; PackageVersion: revBB, Aug-2009; PackageReference: SSOP-SS20; PackageDescription: 20-Lead Plastic Shrink Small Outline (SS) - 5.3mm Body [SSOP]; Supplier 1: Digi-Key; Supplier Part Number 1: PIC16LC622A-04ESS-ND; Supplier 2: Mouser; Supplier Part Number 2: 579-16LC622A-04E/SS; Code_JEDEC: MO-150; ComponentLink1Description: Manufacturer URL; ComponentLink1URL: http://www.microchip.com/; ComponentLink2Description: Datasheet; ComponentLink2URL: http://ww1.microchip.com/downloads/en/DeviceDoc/30235j.pdf; ComponentLink3Description: Package Specification; ComponentLink3URL: http://www.microchip.com/stellent/groups/techpub_sg/documents/packagingspec/en012702.pdf
footprint SSOP-SS20_N (SOP, 20-Leads, Body 7.2x5.2mm, Pitch 0.65mm, IPC Medium Density)
footprint SSOP-SS20_L (SOP, 20-Leads, Body 7.2x5.2mm, Pitch 0.65mm, IPC High Density)
footprint SSOP-SS20_M (SOP, 20-Leads, Body 7.2x5.2mm, Pitch 0.65mm, IPC Low Density)
pins: 1 RA2/AN2/VREF (io), 2 RA3/AN3 (io), 3 RA4/T0CKI (io), 4 ~{MCLR}/VPP (in), 5 VSS (power), 6 VSS (power), 7 RB0/INT (io), 8 RB1 (io), 9 RB2 (io), 10 RB3 (io), 11 RB4 (io), 12 RB5 (io), 13 RB6 (io), 14 RB7 (io), 15 VDD (power), 16 VDD (power), 17 OSC2/CLKOUT (out), 18 OSC1/CLKIN (in), 19 RA0/AN0 (io), 20 RA1/AN1 (io)

## PIC16LC622A-04I/P
designator U?
EPROM-Based 8-Bit CMOS Microcontroller, 128 Bytes RAM, 13 I/O pins, 18-Pin PDIP, 2.7 to 5.5V Supply Range, Industrial Temperature; Manufacturer: Microchip; PartNumber: PIC16LC622A-04I/P; DatasheetVersion: revJ, May-2003; PackageVersion: revBB, Aug-2009; PackageReference: PDIP300-P18; PackageDescription: 18-Lead Plastic Dual In-Line (P) - 300 mil Body [PDIP]; Supplier 1: Digi-Key; Supplier Part Number 1: PIC16LC622A-04I/P-ND; Supplier 2: Mouser; Supplier Part Number 2: 579-16LC622A-04I/P; Code_JEDEC: MS-001; ComponentLink1Description: Manufacturer URL; ComponentLink1URL: http://www.microchip.com/; ComponentLink2Description: Datasheet; ComponentLink2URL: http://ww1.microchip.com/downloads/en/DeviceDoc/30235j.pdf; ComponentLink3Description: Package Specification; ComponentLink3URL: http://www.microchip.com/stellent/groups/techpub_sg/documents/packagingspec/en012702.pdf
footprint PDIP300-P18 (DIP, 18-Leads, Row Spacing 7.62mm, Pitch 2.54mm, Body 22.9x6.6mm)
pins: 1 RA2/AN2/VREF (io), 2 RA3/AN3 (io), 3 RA4/T0CKI (io), 4 ~{MCLR}/VPP (in), 5 VSS (power), 6 RB0/INT (io), 7 RB1 (io), 8 RB2 (io), 9 RB3 (io), 10 RB4 (io), 11 RB5 (io), 12 RB6 (io), 13 RB7 (io), 14 VDD (power), 15 OSC2/CLKOUT (out), 16 OSC1/CLKIN (in), 17 RA0/AN0 (io), 18 RA1/AN1 (io)

## PIC16LC622A-04I/SO
designator U?
EPROM-Based 8-Bit CMOS Microcontroller, 128 Bytes RAM, 13 I/O pins, 18-Pin SOIC, 2.7 to 5.5V Supply Range, Industrial Temperature; Manufacturer: Microchip; PartNumber: PIC16LC622A-04I/SO; DatasheetVersion: revJ, May-2003; PackageVersion: revBB, Aug-2009; PackageReference: SOIC-SO18; PackageDescription: 18-Lead Plastic Small Outline (SO) - Wide 7.50mm Body [SOIC]; Supplier 1: Digi-Key; Supplier Part Number 1: PIC16LC622A-04ISO-ND; Supplier 2: Mouser; Supplier Part Number 2: 579-16LC622A-04I/SO; Code_JEDEC: MS-013; ComponentLink1Description: Manufacturer URL; ComponentLink1URL: http://www.microchip.com/; ComponentLink2Description: Datasheet; ComponentLink2URL: http://ww1.microchip.com/downloads/en/DeviceDoc/30235j.pdf; ComponentLink3Description: Package Specification; ComponentLink3URL: http://www.microchip.com/stellent/groups/techpub_sg/documents/packagingspec/en012702.pdf
footprint SOIC-SO18_N (SOIC, 18-Leads, Body 11.5x7.5mm, Pitch 1.27mm, IPC Medium Density)
footprint SOIC-SO18_L (SOIC, 18-Leads, Body 11.5x7.5mm, Pitch 1.27mm, IPC High Density)
footprint SOIC-SO18_M (SOIC, 18-Leads, Body 11.5x7.5mm, Pitch 1.27mm, IPC Low Density)
pins: 1 RA2/AN2/VREF (io), 2 RA3/AN3 (io), 3 RA4/T0CKI (io), 4 ~{MCLR}/VPP (in), 5 VSS (power), 6 RB0/INT (io), 7 RB1 (io), 8 RB2 (io), 9 RB3 (io), 10 RB4 (io), 11 RB5 (io), 12 RB6 (io), 13 RB7 (io), 14 VDD (power), 15 OSC2/CLKOUT (out), 16 OSC1/CLKIN (in), 17 RA0/AN0 (io), 18 RA1/AN1 (io)

## PIC16LC622A-04I/SS
designator U?
EPROM-Based 8-Bit CMOS Microcontroller, 128 Bytes RAM, 13 I/O pins, 20-Pin SSOP, 2.7 to 5.5V Supply Range, Industrial Temperature; Manufacturer: Microchip; PartNumber: PIC16LC622A-04I/SS; DatasheetVersion: revJ, May-2003; PackageVersion: revBB, Aug-2009; PackageReference: SSOP-SS20; PackageDescription: 20-Lead Plastic Shrink Small Outline (SS) - 5.3mm Body [SSOP]; Supplier 1: Digi-Key; Supplier Part Number 1: PIC16LC622A-04ISS-ND; Supplier 2: Mouser; Supplier Part Number 2: 579-16LC622A-04I/SS; Code_JEDEC: MO-150; ComponentLink1Description: Manufacturer URL; ComponentLink1URL: http://www.microchip.com/; ComponentLink2Description: Datasheet; ComponentLink2URL: http://ww1.microchip.com/downloads/en/DeviceDoc/30235j.pdf; ComponentLink3Description: Package Specification; ComponentLink3URL: http://www.microchip.com/stellent/groups/techpub_sg/documents/packagingspec/en012702.pdf
footprint SSOP-SS20_N (SOP, 20-Leads, Body 7.2x5.2mm, Pitch 0.65mm, IPC Medium Density)
footprint SSOP-SS20_L (SOP, 20-Leads, Body 7.2x5.2mm, Pitch 0.65mm, IPC High Density)
footprint SSOP-SS20_M (SOP, 20-Leads, Body 7.2x5.2mm, Pitch 0.65mm, IPC Low Density)
pins: 1 RA2/AN2/VREF (io), 2 RA3/AN3 (io), 3 RA4/T0CKI (io), 4 ~{MCLR}/VPP (in), 5 VSS (power), 6 VSS (power), 7 RB0/INT (io), 8 RB1 (io), 9 RB2 (io), 10 RB3 (io), 11 RB4 (io), 12 RB5 (io), 13 RB6 (io), 14 RB7 (io), 15 VDD (power), 16 VDD (power), 17 OSC2/CLKOUT (out), 18 OSC1/CLKIN (in), 19 RA0/AN0 (io), 20 RA1/AN1 (io)

## PIC16LC622AT-04/SO
designator U?
EPROM-Based 8-Bit CMOS Microcontroller, 128 Bytes RAM, 13 I/O pins, 18-Pin SOIC, 2.5 to 5.5V Supply Range, Commercial Temperature, Tape and Reel; Manufacturer: Microchip; PartNumber: PIC16LC622AT-04/SO; DatasheetVersion: revJ, May-2003; PackageVersion: revBB, Aug-2009; PackageReference: SOIC-SO18; PackageDescription: 18-Lead Plastic Small Outline (SO) - Wide 7.50mm Body [SOIC]; Supplier 1: Digi-Key; Supplier Part Number 1: PIC16LC622AT-04SO-ND; Supplier 2: Mouser; Supplier Part Number 2: 579-16LC622AT-04/SO; Code_JEDEC: MS-013; ComponentLink1Description: Manufacturer URL; ComponentLink1URL: http://www.microchip.com/; ComponentLink2Description: Datasheet; ComponentLink2URL: http://ww1.microchip.com/downloads/en/DeviceDoc/30235j.pdf; ComponentLink3Description: Package Specification; ComponentLink3URL: http://www.microchip.com/stellent/groups/techpub_sg/documents/packagingspec/en012702.pdf
footprint SOIC-SO18_N (SOIC, 18-Leads, Body 11.5x7.5mm, Pitch 1.27mm, IPC Medium Density)
footprint SOIC-SO18_L (SOIC, 18-Leads, Body 11.5x7.5mm, Pitch 1.27mm, IPC High Density)
footprint SOIC-SO18_M (SOIC, 18-Leads, Body 11.5x7.5mm, Pitch 1.27mm, IPC Low Density)
pins: 1 RA2/AN2/VREF (io), 2 RA3/AN3 (io), 3 RA4/T0CKI (io), 4 ~{MCLR}/VPP (in), 5 VSS (power), 6 RB0/INT (io), 7 RB1 (io), 8 RB2 (io), 9 RB3 (io), 10 RB4 (io), 11 RB5 (io), 12 RB6 (io), 13 RB7 (io), 14 VDD (power), 15 OSC2/CLKOUT (out), 16 OSC1/CLKIN (in), 17 RA0/AN0 (io), 18 RA1/AN1 (io)

## PIC16LC622AT-04/SS
designator U?
EPROM-Based 8-Bit CMOS Microcontroller, 128 Bytes RAM, 13 I/O pins, 20-Pin SSOP, 2.5 to 5.5V Supply Range, Commercial Temperature, Tape and Reel; Manufacturer: Microchip; PartNumber: PIC16LC622AT-04/SS; DatasheetVersion: revJ, May-2003; PackageVersion: revBB, Aug-2009; PackageReference: SSOP-SS20; PackageDescription: 20-Lead Plastic Shrink Small Outline (SS) - 5.3mm Body [SSOP]; Supplier 1: Digi-Key; Supplier Part Number 1: PIC16LC622AT-04SS-ND; Supplier 2: Mouser; Supplier Part Number 2: 579-16LC622AT-04/SS; Code_JEDEC: MO-150; ComponentLink1Description: Manufacturer URL; ComponentLink1URL: http://www.microchip.com/; ComponentLink2Description: Datasheet; ComponentLink2URL: http://ww1.microchip.com/downloads/en/DeviceDoc/30235j.pdf; ComponentLink3Description: Package Specification; ComponentLink3URL: http://www.microchip.com/stellent/groups/techpub_sg/documents/packagingspec/en012702.pdf
footprint SSOP-SS20_N (SOP, 20-Leads, Body 7.2x5.2mm, Pitch 0.65mm, IPC Medium Density)
footprint SSOP-SS20_L (SOP, 20-Leads, Body 7.2x5.2mm, Pitch 0.65mm, IPC High Density)
footprint SSOP-SS20_M (SOP, 20-Leads, Body 7.2x5.2mm, Pitch 0.65mm, IPC Low Density)
pins: 1 RA2/AN2/VREF (io), 2 RA3/AN3 (io), 3 RA4/T0CKI (io), 4 ~{MCLR}/VPP (in), 5 VSS (power), 6 VSS (power), 7 RB0/INT (io), 8 RB1 (io), 9 RB2 (io), 10 RB3 (io), 11 RB4 (io), 12 RB5 (io), 13 RB6 (io), 14 RB7 (io), 15 VDD (power), 16 VDD (power), 17 OSC2/CLKOUT (out), 18 OSC1/CLKIN (in), 19 RA0/AN0 (io), 20 RA1/AN1 (io)

## PIC16LC622AT-04I/SO
designator U?
EPROM-Based 8-Bit CMOS Microcontroller, 128 Bytes RAM, 13 I/O pins, 18-Pin SOIC, 2.7 to 5.5V Supply Range, Industrial Temperature, Tape and Reel; Manufacturer: Microchip; PartNumber: PIC16LC622AT-04I/SO; DatasheetVersion: revJ, May-2003; PackageVersion: revBB, Aug-2009; PackageReference: SOIC-SO18; PackageDescription: 18-Lead Plastic Small Outline (SO) - Wide 7.50mm Body [SOIC]; Supplier 1: Digi-Key; Supplier Part Number 1: PIC16LC622AT04ISO-ND; Supplier 2: Mouser; Supplier Part Number 2: 579-16LC622AT-04I/SO; Code_JEDEC: MS-013; ComponentLink1Description: Manufacturer URL; ComponentLink1URL: http://www.microchip.com/; ComponentLink2Description: Datasheet; ComponentLink2URL: http://ww1.microchip.com/downloads/en/DeviceDoc/30235j.pdf; ComponentLink3Description: Package Specification; ComponentLink3URL: http://www.microchip.com/stellent/groups/techpub_sg/documents/packagingspec/en012702.pdf
footprint SOIC-SO18_N (SOIC, 18-Leads, Body 11.5x7.5mm, Pitch 1.27mm, IPC Medium Density)
footprint SOIC-SO18_L (SOIC, 18-Leads, Body 11.5x7.5mm, Pitch 1.27mm, IPC High Density)
footprint SOIC-SO18_M (SOIC, 18-Leads, Body 11.5x7.5mm, Pitch 1.27mm, IPC Low Density)
pins: 1 RA2/AN2/VREF (io), 2 RA3/AN3 (io), 3 RA4/T0CKI (io), 4 ~{MCLR}/VPP (in), 5 VSS (power), 6 RB0/INT (io), 7 RB1 (io), 8 RB2 (io), 9 RB3 (io), 10 RB4 (io), 11 RB5 (io), 12 RB6 (io), 13 RB7 (io), 14 VDD (power), 15 OSC2/CLKOUT (out), 16 OSC1/CLKIN (in), 17 RA0/AN0 (io), 18 RA1/AN1 (io)

## PIC16LC622AT-04I/SS
designator U?
EPROM-Based 8-Bit CMOS Microcontroller, 128 Bytes RAM, 13 I/O pins, 20-Pin SSOP, 2.7 to 5.5V Supply Range, Industrial Temperature, Tape and Reel; Manufacturer: Microchip; PartNumber: PIC16LC622AT-04I/SS; DatasheetVersion: revJ, May-2003; PackageVersion: revBB, Aug-2009; PackageReference: SSOP-SS20; PackageDescription: 20-Lead Plastic Shrink Small Outline (SS) - 5.3mm Body [SSOP]; Supplier 1: Digi-Key; Supplier Part Number 1: PIC16LC622AT04ISS-ND; Supplier 2: Mouser; Supplier Part Number 2: 579-16LC622AT-04I/SS; Code_JEDEC: MO-150; ComponentLink1Description: Manufacturer URL; ComponentLink1URL: http://www.microchip.com/; ComponentLink2Description: Datasheet; ComponentLink2URL: http://ww1.microchip.com/downloads/en/DeviceDoc/30235j.pdf; ComponentLink3Description: Package Specification; ComponentLink3URL: http://www.microchip.com/stellent/groups/techpub_sg/documents/packagingspec/en012702.pdf
footprint SSOP-SS20_N (SOP, 20-Leads, Body 7.2x5.2mm, Pitch 0.65mm, IPC Medium Density)
footprint SSOP-SS20_L (SOP, 20-Leads, Body 7.2x5.2mm, Pitch 0.65mm, IPC High Density)
footprint SSOP-SS20_M (SOP, 20-Leads, Body 7.2x5.2mm, Pitch 0.65mm, IPC Low Density)
pins: 1 RA2/AN2/VREF (io), 2 RA3/AN3 (io), 3 RA4/T0CKI (io), 4 ~{MCLR}/VPP (in), 5 VSS (power), 6 VSS (power), 7 RB0/INT (io), 8 RB1 (io), 9 RB2 (io), 10 RB3 (io), 11 RB4 (io), 12 RB5 (io), 13 RB6 (io), 14 RB7 (io), 15 VDD (power), 16 VDD (power), 17 OSC2/CLKOUT (out), 18 OSC1/CLKIN (in), 19 RA0/AN0 (io), 20 RA1/AN1 (io)